# EAGLE library part MPU-6050 (library MPU6050)
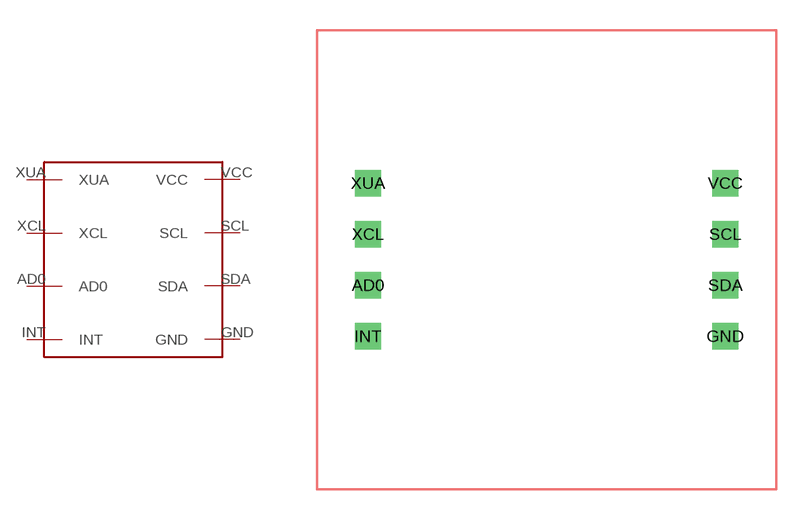
[diagram p0: symbol with the pads of MPU-6050; footprint MPU-6050]

Designator prefix -

## MPU-6050  [MPU-6050]
AD0  AD0
GND  GND
INT  INT
SCL  SCL
SDA  SDA
VCC  VCC
XCL  XCL
XUA  XUA

## Footprint MPU-6050 (pad centres in mm)
drill 0.8 square: AD0 -7.62,-2.54; GND 10.16,-5.08; INT -7.62,-5.08; SCL 10.16,0; SDA 10.16,-2.54; VCC 10.16,2.54; XCL -7.62,0; XUA -7.62,2.54